# Altium footprint library Connector_JST.PcbLib: 558 footprints (part 26 of 35)
Each footprint in its own frame and in the unit in brackets; x right, y up, seen from the top. Pads: shape width x height; smd on the part's side, far side on the other; paste and mask are expansions set on the pad; w line width, h text height; cw(c..) or ccw(c..) is an arc to the next point about the centre after c.
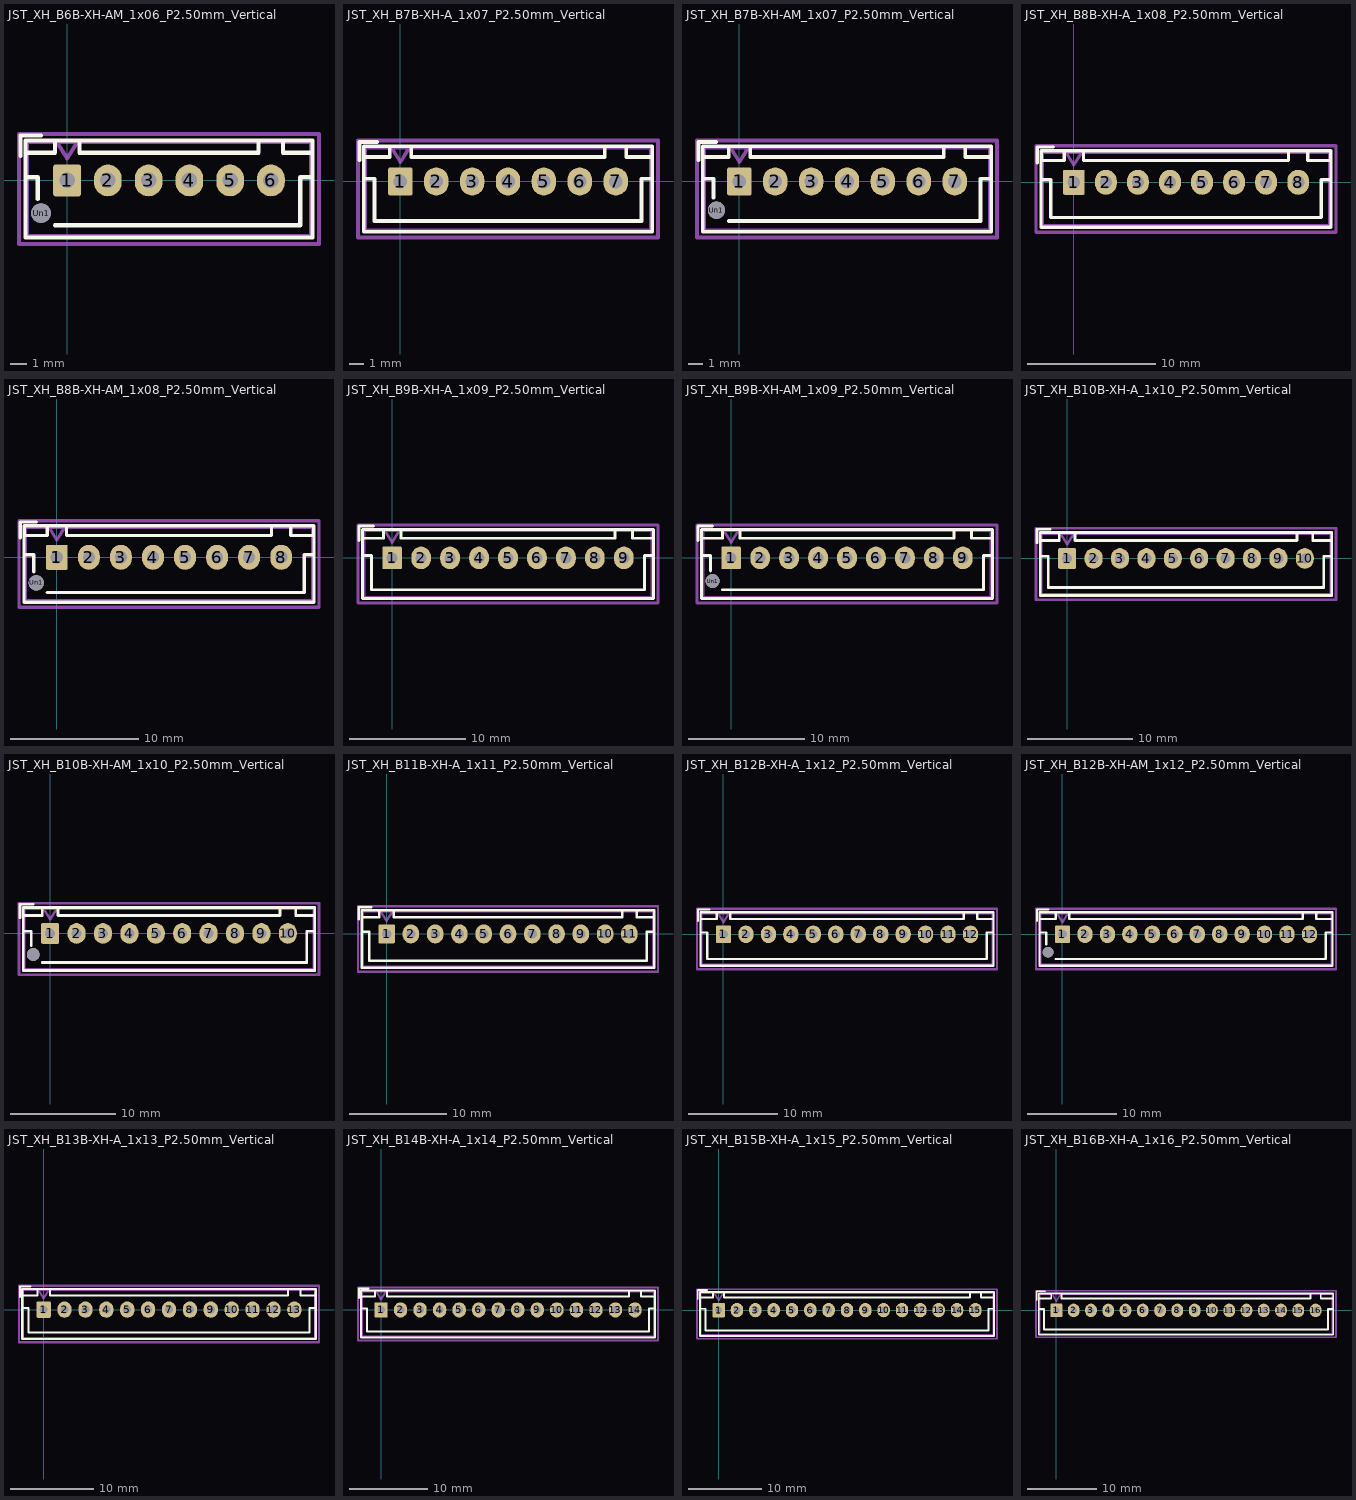
[diagram p25: the footprints below, top view; thin cyan lines are the x and y axes]

## JST_XH_B6B-XH-AM_1x06_P2.50mm_Vertical [mm] "JST_XH_B6B-XH-AM_1x06_P2.50mm_Vertical"
pads (7):
  rrect15% 1.7x1.95 hole 0.95: 1(0,0)
  rrect100% 1.7x1.95 hole 0.95: 2(2.5,0) 3(5,0) 4(7.5,0) 5(10,0) 6(12.5,0)
  round 1.2 hole 1.2: Un1(-1.6,-2)
F.SilkS:
  lines w0.254: -2.85,1.5 -2.85,2.75 -1.6,2.75 ; -2.55,0.2 -1.8,0.2 -1.8,-1.14 ; -0.74,-2.75 6.25,-2.75 14.3,-2.75 14.3,0.2 15.05,0.2 ; -2.56,-3.51 -2.56,2.46 15.06,2.46 15.06,-3.51 -2.56,-3.51 ; -2.55,1.7 -2.55,2.45 -0.75,2.45 -0.75,1.7 -2.55,1.7 ; 0.75,1.7 0.75,2.45 11.75,2.45 11.75,1.7 0.75,1.7 ; 13.25,1.7 13.25,2.45 15.05,2.45 15.05,1.7 13.25,1.7
Top Component Center:
  lines w0.127: -0.127,0 0.127,0 ; 0,-0.127 0,0.127
Top Assembly:
  lines w0.254: -0.625,2.35 0,1.35 0.625,2.35 ; -2.45,-3.4 -2.45,2.35 14.95,2.35 14.95,-3.4 -2.45,-3.4
Top Courtyard:
  lines w0.254: -2.95,-3.9 -2.95,2.85 15.45,2.85 15.45,-3.9 -2.95,-3.9
Top Designator:
  text ".Designator" at 3.301,-2.122 h1.52

## JST_XH_B7B-XH-A_1x07_P2.50mm_Vertical [mm] "JST_XH_B7B-XH-A_1x07_P2.50mm_Vertical"
pads (7):
  rrect15% 1.7x1.95 hole 0.95: 1(0,0)
  rrect100% 1.7x1.95 hole 0.95: 2(2.5,0) 3(5,0) 4(7.5,0) 5(10,0) 6(12.5,0) 7(15,0)
F.SilkS:
  lines w0.254: -2.85,1.5 -2.85,2.75 -1.6,2.75 ; -2.55,0.2 -1.8,0.2 -1.8,-2.75 7.5,-2.75 16.8,-2.75 16.8,0.2 17.55,0.2 ; -2.56,-3.51 -2.56,2.46 17.56,2.46 17.56,-3.51 -2.56,-3.51 ; -2.55,1.7 -2.55,2.45 -0.75,2.45 -0.75,1.7 -2.55,1.7 ; 0.75,1.7 0.75,2.45 14.25,2.45 14.25,1.7 0.75,1.7 ; 15.75,1.7 15.75,2.45 17.55,2.45 17.55,1.7 15.75,1.7
Top Component Center:
  lines w0.127: -0.127,0 0.127,0 ; 0,-0.127 0,0.127
Top Assembly:
  lines w0.254: -0.625,2.35 0,1.35 0.625,2.35 ; -2.45,-3.4 -2.45,2.35 17.45,2.35 17.45,-3.4 -2.45,-3.4
Top Courtyard:
  lines w0.254: -2.95,-3.9 -2.95,2.85 17.95,2.85 17.95,-3.9 -2.95,-3.9
Top Designator:
  text ".Designator" at 3.936,-2.122 h1.52
3D body "JST_XH_B7B-XH-A_1x07_P2.50mm_Vertical.step": height 7, standoff -3.4, extent -2.45,-3.4 17.45,2.35

## JST_XH_B7B-XH-AM_1x07_P2.50mm_Vertical [mm] "JST_XH_B7B-XH-AM_1x07_P2.50mm_Vertical"
pads (8):
  rrect15% 1.7x1.95 hole 0.95: 1(0,0)
  rrect100% 1.7x1.95 hole 0.95: 2(2.5,0) 3(5,0) 4(7.5,0) 5(10,0) 6(12.5,0) 7(15,0)
  round 1.2 hole 1.2: Un1(-1.6,-2)
F.SilkS:
  lines w0.254: -2.85,1.5 -2.85,2.75 -1.6,2.75 ; -2.55,0.2 -1.8,0.2 -1.8,-1.14 ; -0.74,-2.75 7.5,-2.75 16.8,-2.75 16.8,0.2 17.55,0.2 ; -2.56,-3.51 17.56,-3.51 17.56,2.46 -2.56,2.46 -2.56,-3.51 ; -2.55,1.7 -0.75,1.7 -0.75,2.45 -2.55,2.45 -2.55,1.7 ; 0.75,1.7 14.25,1.7 14.25,2.45 0.75,2.45 0.75,1.7 ; 15.75,1.7 17.55,1.7 17.55,2.45 15.75,2.45 15.75,1.7
Top Component Center:
  lines w0.127: -0.127,0 0.127,0 ; 0,-0.127 0,0.127
Top Assembly:
  lines w0.254: -0.625,2.35 0,1.35 0.625,2.35 ; -2.45,-3.4 17.45,-3.4 17.45,2.35 -2.45,2.35 -2.45,-3.4
Top Courtyard:
  lines w0.254: -2.95,-3.9 17.95,-3.9 17.95,2.85 -2.95,2.85 -2.95,-3.9
Top Designator:
  text ".Designator" at 4.317,-2.249 h1.52

## JST_XH_B8B-XH-A_1x08_P2.50mm_Vertical [mm] "JST_XH_B8B-XH-A_1x08_P2.50mm_Vertical"
pads (8):
  rrect15% 1.7x1.95 hole 0.95: 1(0,0)
  rrect100% 1.7x1.95 hole 0.95: 2(2.5,0) 3(5,0) 4(7.5,0) 5(10,0) 6(12.5,0) 7(15,0) 8(17.5,0)
F.SilkS:
  lines w0.254: -2.85,1.5 -2.85,2.75 -1.6,2.75 ; -2.55,0.2 -1.8,0.2 -1.8,-2.75 8.75,-2.75 19.3,-2.75 19.3,0.2 20.05,0.2 ; -2.56,-3.51 20.06,-3.51 20.06,2.46 -2.56,2.46 -2.56,-3.51 ; -2.55,1.7 -0.75,1.7 -0.75,2.45 -2.55,2.45 -2.55,1.7 ; 0.75,1.7 16.75,1.7 16.75,2.45 0.75,2.45 0.75,1.7 ; 18.25,1.7 20.05,1.7 20.05,2.45 18.25,2.45 18.25,1.7
Top Component Center:
  lines w0.127: -0.127,0 0.127,0 ; 0,-0.127 0,0.127
Top Assembly:
  lines w0.254: -0.625,2.35 0,1.35 0.625,2.35 ; -2.45,-3.4 19.95,-3.4 19.95,2.35 -2.45,2.35 -2.45,-3.4
Top Courtyard:
  lines w0.254: -2.95,-3.9 20.45,-3.9 20.45,2.85 -2.95,2.85 -2.95,-3.9
Top Designator:
  text ".Designator" at 5.333,-2.122 h1.52
3D body "JST_XH_B8B-XH-A_1x08_P2.50mm_Vertical.step": height 7, standoff -3.4, extent -2.45,-3.4 19.95,2.35

## JST_XH_B8B-XH-AM_1x08_P2.50mm_Vertical [mm] "JST_XH_B8B-XH-AM_1x08_P2.50mm_Vertical"
pads (9):
  rrect15% 1.7x1.95 hole 0.95: 1(0,0)
  rrect100% 1.7x1.95 hole 0.95: 2(2.5,0) 3(5,0) 4(7.5,0) 5(10,0) 6(12.5,0) 7(15,0) 8(17.5,0)
  round 1.2 hole 1.2: Un1(-1.6,-2)
F.SilkS:
  lines w0.254: -2.85,1.5 -2.85,2.75 -1.6,2.75 ; -2.55,0.2 -1.8,0.2 -1.8,-1.14 ; -0.74,-2.75 8.75,-2.75 19.3,-2.75 19.3,0.2 20.05,0.2 ; -2.56,-3.51 -2.56,2.46 20.06,2.46 20.06,-3.51 -2.56,-3.51 ; -2.55,1.7 -2.55,2.45 -0.75,2.45 -0.75,1.7 -2.55,1.7 ; 0.75,1.7 0.75,2.45 16.75,2.45 16.75,1.7 0.75,1.7 ; 18.25,1.7 18.25,2.45 20.05,2.45 20.05,1.7 18.25,1.7
Top Component Center:
  lines w0.127: -0.127,0 0.127,0 ; 0,-0.127 0,0.127
Top Assembly:
  lines w0.254: -0.625,2.35 0,1.35 0.625,2.35 ; -2.45,-3.4 -2.45,2.35 19.95,2.35 19.95,-3.4 -2.45,-3.4
Top Courtyard:
  lines w0.254: -2.95,-3.9 -2.95,2.85 20.45,2.85 20.45,-3.9 -2.95,-3.9
Top Designator:
  text ".Designator" at 5.206,-2.122 h1.52

## JST_XH_B9B-XH-A_1x09_P2.50mm_Vertical [mm] "JST_XH_B9B-XH-A_1x09_P2.50mm_Vertical"
pads (9):
  rrect15% 1.7x1.95 hole 0.95: 1(0,0)
  rrect100% 1.7x1.95 hole 0.95: 2(2.5,0) 3(5,0) 4(7.5,0) 5(10,0) 6(12.5,0) 7(15,0) 8(17.5,0) 9(20,0)
F.SilkS:
  lines w0.254: -2.85,1.5 -2.85,2.75 -1.6,2.75 ; -2.55,0.2 -1.8,0.2 -1.8,-2.75 10,-2.75 21.8,-2.75 21.8,0.2 22.55,0.2 ; -2.56,-3.51 -2.56,2.46 22.56,2.46 22.56,-3.51 -2.56,-3.51 ; -2.55,1.7 -2.55,2.45 -0.75,2.45 -0.75,1.7 -2.55,1.7 ; 0.75,1.7 0.75,2.45 19.25,2.45 19.25,1.7 0.75,1.7 ; 20.75,1.7 20.75,2.45 22.55,2.45 22.55,1.7 20.75,1.7
Top Component Center:
  lines w0.127: -0.127,0 0.127,0 ; 0,-0.127 0,0.127
Top Assembly:
  lines w0.254: -0.625,2.35 0,1.35 0.625,2.35 ; -2.45,-3.4 -2.45,2.35 22.45,2.35 22.45,-3.4 -2.45,-3.4
Top Courtyard:
  lines w0.254: -2.95,-3.9 -2.95,2.85 22.95,2.85 22.95,-3.9 -2.95,-3.9
Top Designator:
  text ".Designator" at 5.841,-2.122 h1.52
3D body "JST_XH_B9B-XH-A_1x09_P2.50mm_Vertical.step": height 7, standoff -3.4, extent -2.45,-3.4 22.45,2.35

## JST_XH_B9B-XH-AM_1x09_P2.50mm_Vertical [mm] "JST_XH_B9B-XH-AM_1x09_P2.50mm_Vertical"
pads (10):
  rrect15% 1.7x1.95 hole 0.95: 1(0,0)
  rrect100% 1.7x1.95 hole 0.95: 2(2.5,0) 3(5,0) 4(7.5,0) 5(10,0) 6(12.5,0) 7(15,0) 8(17.5,0) 9(20,0)
  round 1.2 hole 1.2: Un1(-1.6,-2)
F.SilkS:
  lines w0.254: -2.85,1.5 -2.85,2.75 -1.6,2.75 ; -2.55,0.2 -1.8,0.2 -1.8,-1.14 ; -0.74,-2.75 10,-2.75 21.8,-2.75 21.8,0.2 22.55,0.2 ; -2.56,-3.51 -2.56,2.46 22.56,2.46 22.56,-3.51 -2.56,-3.51 ; -2.55,1.7 -2.55,2.45 -0.75,2.45 -0.75,1.7 -2.55,1.7 ; 0.75,1.7 0.75,2.45 19.25,2.45 19.25,1.7 0.75,1.7 ; 20.75,1.7 20.75,2.45 22.55,2.45 22.55,1.7 20.75,1.7
Top Component Center:
  lines w0.127: -0.127,0 0.127,0 ; 0,-0.127 0,0.127
Top Assembly:
  lines w0.254: -0.625,2.35 0,1.35 0.625,2.35 ; -2.45,-3.4 -2.45,2.35 22.45,2.35 22.45,-3.4 -2.45,-3.4
Top Courtyard:
  lines w0.254: -2.95,-3.9 -2.95,2.85 22.95,2.85 22.95,-3.9 -2.95,-3.9
Top Designator:
  text ".Designator" at 6.857,-2.122 h1.52

## JST_XH_B10B-XH-A_1x10_P2.50mm_Vertical [mm] "JST_XH_B10B-XH-A_1x10_P2.50mm_Vertical"
pads (10):
  rrect15% 1.7x1.95 hole 0.95: 1(0,0)
  rrect100% 1.7x1.95 hole 0.95: 2(2.5,0) 3(5,0) 4(7.5,0) 5(10,0) 6(12.5,0) 7(15,0) 8(17.5,0) 9(20,0) 10(22.5,0)
F.SilkS:
  lines w0.254: -2.85,1.5 -2.85,2.75 -1.6,2.75 ; -2.55,0.2 -1.8,0.2 -1.8,-2.75 11.25,-2.75 24.3,-2.75 24.3,0.2 25.05,0.2 ; -2.56,-3.51 -2.56,2.46 25.06,2.46 25.06,-3.51 -2.56,-3.51 ; -2.55,1.7 -2.55,2.45 -0.75,2.45 -0.75,1.7 -2.55,1.7 ; 0.75,1.7 0.75,2.45 21.75,2.45 21.75,1.7 0.75,1.7 ; 23.25,1.7 23.25,2.45 25.05,2.45 25.05,1.7 23.25,1.7
Top Component Center:
  lines w0.127: -0.127,0 0.127,0 ; 0,-0.127 0,0.127
Top Assembly:
  lines w0.254: -0.625,2.35 0,1.35 0.625,2.35 ; -2.45,-3.4 -2.45,2.35 24.95,2.35 24.95,-3.4 -2.45,-3.4
Top Courtyard:
  lines w0.254: -2.95,-3.9 -2.95,2.85 25.45,2.85 25.45,-3.9 -2.95,-3.9
Top Designator:
  text ".Designator" at 8,-2.122 h1.52
3D body "JST_XH_B10B-XH-A_1x10_P2.50mm_Vertical.step": height 7, standoff -3.4, extent -2.45,-3.4 24.95,2.35

## JST_XH_B10B-XH-AM_1x10_P2.50mm_Vertical [mm] "JST_XH_B10B-XH-AM_1x10_P2.50mm_Vertical"
pads (11):
  rrect15% 1.7x1.95 hole 0.95: 1(0,0)
  rrect100% 1.7x1.95 hole 0.95: 2(2.5,0) 3(5,0) 4(7.5,0) 5(10,0) 6(12.5,0) 7(15,0) 8(17.5,0) 9(20,0) 10(22.5,0)
  round 1.2 hole 1.2: Un1(-1.6,-2)
F.SilkS:
  lines w0.254: -2.85,1.5 -2.85,2.75 -1.6,2.75 ; -2.55,0.2 -1.8,0.2 -1.8,-1.14 ; -0.74,-2.75 11.25,-2.75 24.3,-2.75 24.3,0.2 25.05,0.2 ; -2.56,-3.51 -2.56,2.46 25.06,2.46 25.06,-3.51 -2.56,-3.51 ; -2.55,1.7 -2.55,2.45 -0.75,2.45 -0.75,1.7 -2.55,1.7 ; 0.75,1.7 0.75,2.45 21.75,2.45 21.75,1.7 0.75,1.7 ; 23.25,1.7 23.25,2.45 25.05,2.45 25.05,1.7 23.25,1.7
Top Component Center:
  lines w0.127: -0.127,0 0.127,0 ; 0,-0.127 0,0.127
Top Assembly:
  lines w0.254: -0.625,2.35 0,1.35 0.625,2.35 ; -2.45,-3.4 -2.45,2.35 24.95,2.35 24.95,-3.4 -2.45,-3.4
Top Courtyard:
  lines w0.254: -2.95,-3.9 -2.95,2.85 25.45,2.85 25.45,-3.9 -2.95,-3.9
Top Designator:
  text ".Designator" at 7.619,-2.122 h1.52

## JST_XH_B11B-XH-A_1x11_P2.50mm_Vertical [mm] "JST_XH_B11B-XH-A_1x11_P2.50mm_Vertical"
pads (11):
  rrect15% 1.7x1.95 hole 0.95: 1(0,0)
  rrect100% 1.7x1.95 hole 0.95: 2(2.5,0) 3(5,0) 4(7.5,0) 5(10,0) 6(12.5,0) 7(15,0) 8(17.5,0) 9(20,0) 10(22.5,0) 11(25,0)
F.SilkS:
  lines w0.254: -2.85,1.5 -2.85,2.75 -1.6,2.75 ; -2.55,0.2 -1.8,0.2 -1.8,-2.75 12.5,-2.75 26.8,-2.75 26.8,0.2 27.55,0.2 ; -2.56,-3.51 -2.56,2.46 27.56,2.46 27.56,-3.51 -2.56,-3.51 ; -2.55,1.7 -2.55,2.45 -0.75,2.45 -0.75,1.7 -2.55,1.7 ; 0.75,1.7 0.75,2.45 24.25,2.45 24.25,1.7 0.75,1.7 ; 25.75,1.7 25.75,2.45 27.55,2.45 27.55,1.7 25.75,1.7
Top Component Center:
  lines w0.127: -0.127,0 0.127,0 ; 0,-0.127 0,0.127
Top Assembly:
  lines w0.254: -0.625,2.35 0,1.35 0.625,2.35 ; -2.45,-3.4 -2.45,2.35 27.45,2.35 27.45,-3.4 -2.45,-3.4
Top Courtyard:
  lines w0.254: -2.95,-3.9 -2.95,2.85 27.95,2.85 27.95,-3.9 -2.95,-3.9
Top Designator:
  text ".Designator" at 8.762,-2.122 h1.52
3D body "JST_XH_B11B-XH-A_1x11_P2.50mm_Vertical.step": height 7, standoff -3.4, extent -2.45,-3.4 27.45,2.35

## JST_XH_B12B-XH-A_1x12_P2.50mm_Vertical [mm] "JST_XH_B12B-XH-A_1x12_P2.50mm_Vertical"
pads (12):
  rrect15% 1.7x1.95 hole 0.95: 1(0,0)
  rrect100% 1.7x1.95 hole 0.95: 2(2.5,0) 3(5,0) 4(7.5,0) 5(10,0) 6(12.5,0) 7(15,0) 8(17.5,0) 9(20,0) 10(22.5,0) 11(25,0) 12(27.5,0)
F.SilkS:
  lines w0.254: -2.85,1.5 -2.85,2.75 -1.6,2.75 ; -2.55,0.2 -1.8,0.2 -1.8,-2.75 13.75,-2.75 29.3,-2.75 29.3,0.2 30.05,0.2 ; -2.56,-3.51 30.06,-3.51 30.06,2.46 -2.56,2.46 -2.56,-3.51 ; -2.55,1.7 -0.75,1.7 -0.75,2.45 -2.55,2.45 -2.55,1.7 ; 0.75,1.7 26.75,1.7 26.75,2.45 0.75,2.45 0.75,1.7 ; 28.25,1.7 30.05,1.7 30.05,2.45 28.25,2.45 28.25,1.7
Top Component Center:
  lines w0.127: -0.127,0 0.127,0 ; 0,-0.127 0,0.127
Top Assembly:
  lines w0.254: -0.625,2.35 0,1.35 0.625,2.35 ; -2.45,-3.4 29.95,-3.4 29.95,2.35 -2.45,2.35 -2.45,-3.4
Top Courtyard:
  lines w0.254: -2.95,-3.9 30.45,-3.9 30.45,2.85 -2.95,2.85 -2.95,-3.9
Top Designator:
  text ".Designator" at 10.286,-2.122 h1.52
3D body "JST_XH_B12B-XH-A_1x12_P2.50mm_Vertical.step": height 7, standoff -3.4, extent -2.45,-3.4 29.95,2.35

## JST_XH_B12B-XH-AM_1x12_P2.50mm_Vertical [mm] "JST_XH_B12B-XH-AM_1x12_P2.50mm_Vertical"
pads (13):
  rrect15% 1.7x1.95 hole 0.95: 1(0,0)
  rrect100% 1.7x1.95 hole 0.95: 2(2.5,0) 3(5,0) 4(7.5,0) 5(10,0) 6(12.5,0) 7(15,0) 8(17.5,0) 9(20,0) 10(22.5,0) 11(25,0) 12(27.5,0)
  round 1.2 hole 1.2: Un1(-1.6,-2)
F.SilkS:
  lines w0.254: -2.85,1.5 -2.85,2.75 -1.6,2.75 ; -2.55,0.2 -1.8,0.2 -1.8,-1.14 ; -0.74,-2.75 13.75,-2.75 29.3,-2.75 29.3,0.2 30.05,0.2 ; -2.56,-3.51 -2.56,2.46 30.06,2.46 30.06,-3.51 -2.56,-3.51 ; -2.55,1.7 -2.55,2.45 -0.75,2.45 -0.75,1.7 -2.55,1.7 ; 0.75,1.7 0.75,2.45 26.75,2.45 26.75,1.7 0.75,1.7 ; 28.25,1.7 28.25,2.45 30.05,2.45 30.05,1.7 28.25,1.7
Top Component Center:
  lines w0.127: -0.127,0 0.127,0 ; 0,-0.127 0,0.127
Top Assembly:
  lines w0.254: -0.625,2.35 0,1.35 0.625,2.35 ; -2.45,-3.4 -2.45,2.35 29.95,2.35 29.95,-3.4 -2.45,-3.4
Top Courtyard:
  lines w0.254: -2.95,-3.9 -2.95,2.85 30.45,2.85 30.45,-3.9 -2.95,-3.9
Top Designator:
  text ".Designator" at 10.286,-2.122 h1.52

## JST_XH_B13B-XH-A_1x13_P2.50mm_Vertical [mm] "JST_XH_B13B-XH-A_1x13_P2.50mm_Vertical"
pads (13):
  rrect15% 1.7x1.95 hole 0.95: 1(0,0)
  rrect100% 1.7x1.95 hole 0.95: 2(2.5,0) 3(5,0) 4(7.5,0) 5(10,0) 6(12.5,0) 7(15,0) 8(17.5,0) 9(20,0) 10(22.5,0) 11(25,0) 12(27.5,0) 13(30,0)
F.SilkS:
  lines w0.254: -2.85,1.5 -2.85,2.75 -1.6,2.75 ; -2.55,0.2 -1.8,0.2 -1.8,-2.75 15,-2.75 31.8,-2.75 31.8,0.2 32.55,0.2 ; -2.56,-3.51 32.56,-3.51 32.56,2.46 -2.56,2.46 -2.56,-3.51 ; -2.55,1.7 -0.75,1.7 -0.75,2.45 -2.55,2.45 -2.55,1.7 ; 0.75,1.7 29.25,1.7 29.25,2.45 0.75,2.45 0.75,1.7 ; 30.75,1.7 32.55,1.7 32.55,2.45 30.75,2.45 30.75,1.7
Top Component Center:
  lines w0.127: -0.127,0 0.127,0 ; 0,-0.127 0,0.127
Top Assembly:
  lines w0.254: -0.625,2.35 0,1.35 0.625,2.35 ; -2.45,-3.4 32.45,-3.4 32.45,2.35 -2.45,2.35 -2.45,-3.4
Top Courtyard:
  lines w0.254: -2.95,-3.9 32.95,-3.9 32.95,2.85 -2.95,2.85 -2.95,-3.9
Top Designator:
  text ".Designator" at 11.683,-2.122 h1.52
3D body "JST_XH_B13B-XH-A_1x13_P2.50mm_Vertical.step": height 7, standoff -3.4, extent -2.45,-3.4 32.45,2.35

## JST_XH_B14B-XH-A_1x14_P2.50mm_Vertical [mm] "JST_XH_B14B-XH-A_1x14_P2.50mm_Vertical"
pads (14):
  rrect15% 1.7x1.95 hole 0.95: 1(0,0)
  rrect100% 1.7x1.95 hole 0.95: 2(2.5,0) 3(5,0) 4(7.5,0) 5(10,0) 6(12.5,0) 7(15,0) 8(17.5,0) 9(20,0) 10(22.5,0) 11(25,0) 12(27.5,0) 13(30,0) 14(32.5,0)
F.SilkS:
  lines w0.254: -2.85,1.5 -2.85,2.75 -1.6,2.75 ; -2.55,0.2 -1.8,0.2 -1.8,-2.75 16.25,-2.75 34.3,-2.75 34.3,0.2 35.05,0.2 ; -2.56,-3.51 35.06,-3.51 35.06,2.46 -2.56,2.46 -2.56,-3.51 ; -2.55,1.7 -0.75,1.7 -0.75,2.45 -2.55,2.45 -2.55,1.7 ; 0.75,1.7 31.75,1.7 31.75,2.45 0.75,2.45 0.75,1.7 ; 33.25,1.7 35.05,1.7 35.05,2.45 33.25,2.45 33.25,1.7
Top Component Center:
  lines w0.127: -0.127,0 0.127,0 ; 0,-0.127 0,0.127
Top Assembly:
  lines w0.254: -0.625,2.35 0,1.35 0.625,2.35 ; -2.45,-3.4 34.95,-3.4 34.95,2.35 -2.45,2.35 -2.45,-3.4
Top Courtyard:
  lines w0.254: -2.95,-3.9 35.45,-3.9 35.45,2.85 -2.95,2.85 -2.95,-3.9
Top Designator:
  text ".Designator" at 12.826,-1.995 h1.52
3D body "JST_XH_B14B-XH-A_1x14_P2.50mm_Vertical.step": height 7, standoff -3.4, extent -2.45,-3.4 34.95,2.35

## JST_XH_B15B-XH-A_1x15_P2.50mm_Vertical [mm] "JST_XH_B15B-XH-A_1x15_P2.50mm_Vertical"
pads (15):
  rrect15% 1.7x1.95 hole 0.95: 1(0,0)
  rrect100% 1.7x1.95 hole 0.95: 2(2.5,0) 3(5,0) 4(7.5,0) 5(10,0) 6(12.5,0) 7(15,0) 8(17.5,0) 9(20,0) 10(22.5,0) 11(25,0) 12(27.5,0) 13(30,0) 14(32.5,0) 15(35,0)
F.SilkS:
  lines w0.254: -2.85,1.5 -2.85,2.75 -1.6,2.75 ; -2.55,0.2 -1.8,0.2 -1.8,-2.75 17.5,-2.75 36.8,-2.75 36.8,0.2 37.55,0.2 ; -2.56,-3.51 37.56,-3.51 37.56,2.46 -2.56,2.46 -2.56,-3.51 ; -2.55,1.7 -0.75,1.7 -0.75,2.45 -2.55,2.45 -2.55,1.7 ; 0.75,1.7 34.25,1.7 34.25,2.45 0.75,2.45 0.75,1.7 ; 35.75,1.7 37.55,1.7 37.55,2.45 35.75,2.45 35.75,1.7
Top Component Center:
  lines w0.127: -0.127,0 0.127,0 ; 0,-0.127 0,0.127
Top Assembly:
  lines w0.254: -0.625,2.35 0,1.35 0.625,2.35 ; -2.45,-3.4 37.45,-3.4 37.45,2.35 -2.45,2.35 -2.45,-3.4
Top Courtyard:
  lines w0.254: -2.95,-3.9 37.95,-3.9 37.95,2.85 -2.95,2.85 -2.95,-3.9
Top Designator:
  text ".Designator" at 13.969,-2.122 h1.52
3D body "JST_XH_B15B-XH-A_1x15_P2.50mm_Vertical.step": height 7, standoff -3.4, extent -2.45,-3.4 37.45,2.35

## JST_XH_B16B-XH-A_1x16_P2.50mm_Vertical [mm] "JST_XH_B16B-XH-A_1x16_P2.50mm_Vertical"
pads (16):
  rrect15% 1.7x1.95 hole 0.95: 1(0,0)
  rrect100% 1.7x1.95 hole 0.95: 2(2.5,0) 3(5,0) 4(7.5,0) 5(10,0) 6(12.5,0) 7(15,0) 8(17.5,0) 9(20,0) 10(22.5,0) 11(25,0) 12(27.5,0) 13(30,0) 14(32.5,0) 15(35,0) 16(37.5,0)
F.SilkS:
  lines w0.254: -2.85,1.5 -2.85,2.75 -1.6,2.75 ; -2.55,0.2 -1.8,0.2 -1.8,-2.75 18.75,-2.75 39.3,-2.75 39.3,0.2 40.05,0.2 ; -2.56,-3.51 40.06,-3.51 40.06,2.46 -2.56,2.46 -2.56,-3.51 ; -2.55,1.7 -0.75,1.7 -0.75,2.45 -2.55,2.45 -2.55,1.7 ; 0.75,1.7 36.75,1.7 36.75,2.45 0.75,2.45 0.75,1.7 ; 38.25,1.7 40.05,1.7 40.05,2.45 38.25,2.45 38.25,1.7
Top Component Center:
  lines w0.127: -0.127,0 0.127,0 ; 0,-0.127 0,0.127
Top Assembly:
  lines w0.254: -0.625,2.35 0,1.35 0.625,2.35 ; -2.45,-3.4 39.95,-3.4 39.95,2.35 -2.45,2.35 -2.45,-3.4
Top Courtyard:
  lines w0.254: -2.95,-3.9 40.45,-3.9 40.45,2.85 -2.95,2.85 -2.95,-3.9
Top Designator:
  text ".Designator" at 15.366,-2.122 h1.52
3D body "JST_XH_B16B-XH-A_1x16_P2.50mm_Vertical.step": height 7, standoff -3.4, extent -2.45,-3.4 39.95,2.35